# EAGLE library part LM2675M-12 (library NSC_By_element14_Batch_1.1)
IC REG SIMPLE SWITCHER
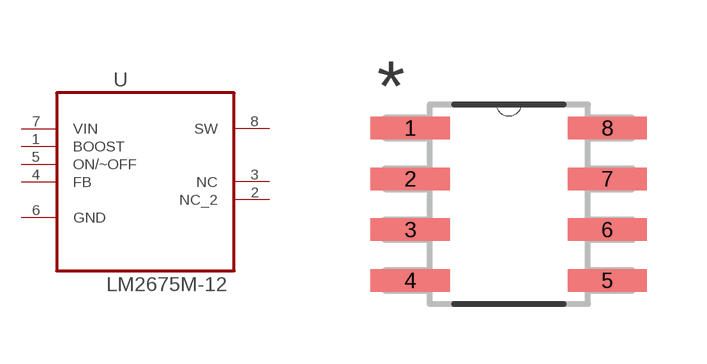
[diagram p1: symbol with the pads of SOIC127P600X175-8N; footprint SOIC127P600X175-8N]

Designator prefix U

## LM2675M-12 (MPN: LM2675M-12; OC_FARNELL: 1469208; OC_NEWARK: 41K4139; PACKAGE: 8-SOIC; SUPPLIER: National Semiconductor)  [SOIC127P600X175-8N]
1  BOOST  pas
2  NC_2  pas
3  NC  pas
4  FB  pas
5  ON/~OFF  pas
6  GND  pas
7  VIN  in
8  SW  out

## Footprint SOIC127P600X175-8N (pad centres in mm)
smd 1.981 x 0.559: 1 -2.464,1.905; 2 -2.464,0.635; 3 -2.464,-0.635; 4 -2.464,-1.905; 5 2.464,-1.905; 6 2.464,-0.635; 7 2.464,0.635; 8 2.464,1.905